# Altium integrated library Circuit Protection -VEA_rev16a.intlib: 2 symbols
Pins are listed as number, name and electrical type; pins without a type are passive.

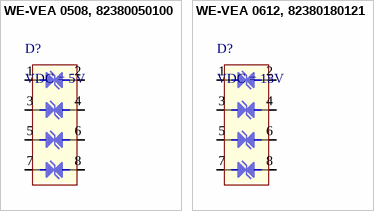
[diagram p0: symbols WE-VEA 0508, 82380050100 to WE-VEA 0612, 82380180121]

## WE-VEA 0508, 82380050100
designator D?, comment VDC = 5V
WE-VEA ESD Suppressor-Array, VDC = 5V; PartNo: 82380050100; Manufacturer: Wurth Elektronik; VDC: 5V; ComponentLink1Description: Manufacturer; ComponentLink1URL: http://www.we-online.de; Created by: BJ.Chen; Created Date: Jan 2016; ComponentLink2Description: Datasheet; ComponentLink2URL: http://katalog.we-online.de/pbs/datasheet/82380050100.pdf
footprint WE-VEA_0508 (WE-VEA ESD Suppressor-Array, size 0508)
pins: 1 I/O1, 2 I/O1, 3 I/O2, 4 I/O2, 5 I/O3, 6 I/O3, 7 I/O4, 8 I/O4

## WE-VEA 0612, 82380180121
designator D?, comment VDC = 18V
WE-VEA ESD Suppressor-Array, VDC = 18V; PartNo: 82380180121; Manufacturer: Wurth Elektronik; Reverse Stand Off Voltage: 18V; ComponentLink1Description: Manufacturer; ComponentLink1URL: http://www.we-online.de; Created by: BJ.Chen; Created Date: Jan 2016; ComponentLink2Description: Datasheet; ComponentLink2URL: http://katalog.we-online.de/pbs/datasheet/82380180121.pdf
footprint WE-VEA_0612 (WE-VEA ESD Suppressor-Array, size 0612)
pins: 1 I/O1, 2 I/O1, 3 I/O2, 4 I/O2, 5 I/O3, 6 I/O3, 7 I/O4, 8 I/O4